# Altium schematic symbol library Sensor_Motion.SchLib: 26 symbols
Pins are listed as number, name and electrical type; pins without a type are passive.

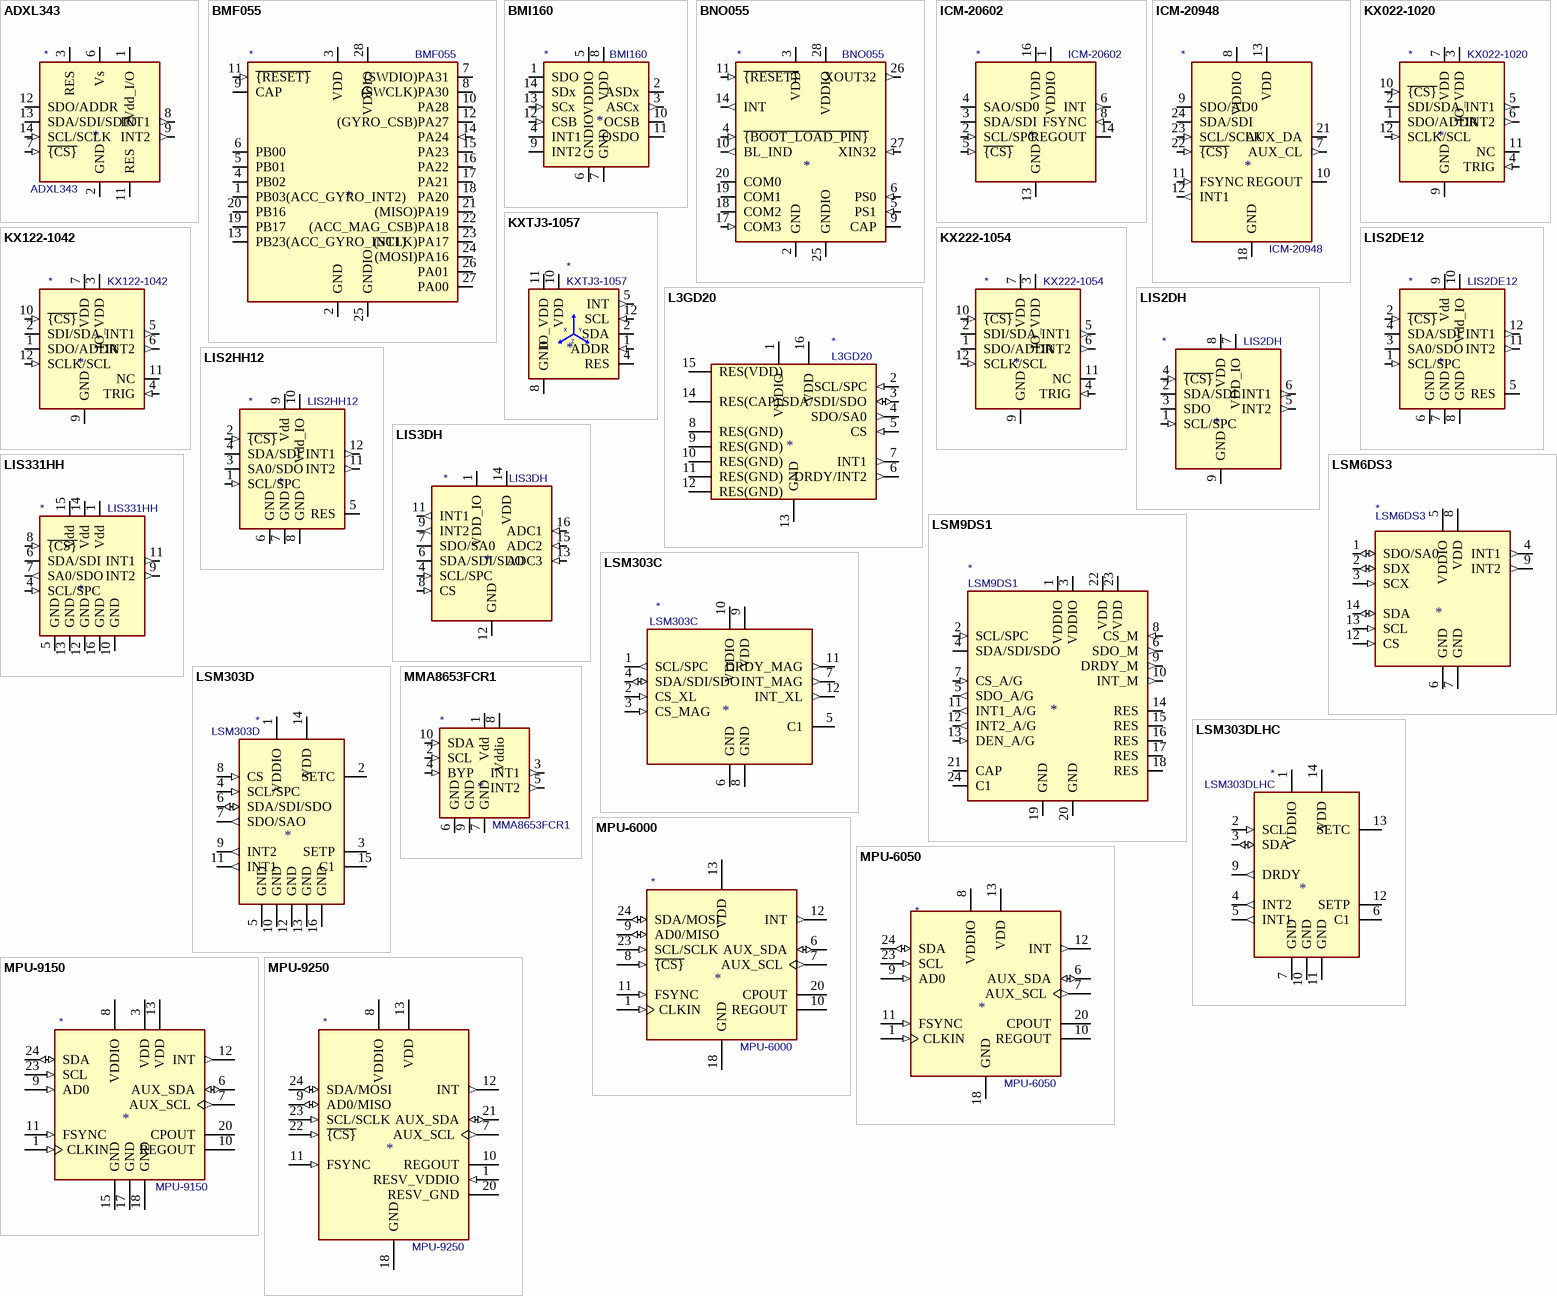
[diagram p0: symbols ADXL343 to MPU-9250]

## ADXL343
designator *  value ADXL343
ki_keywords: 3-axis accelerometer i2c spi mems; ki_description: 3-Axis MEMS Accelerometer, 2/4/8/16g range, I2C/SPI, LGA-14; ki_fp_filters: *LGA*3x5mm*P0.8mm*; Footprint: Package_LGA:LGA-14_3x5mm_P0.8mm_LayoutBorder1x6y; Supplier: https://www.analog.com/media/en/technical-documentation/data-sheets/ADXL343.pdf
footprint LGA-14_3x5mm_P0.8mm_LayoutBorder1x6y
pins: 1 Vdd_I/O (power), 2 GND (power), 3 RES, 4 GND hidden, 5 GND hidden, 6 Vs (power), 7 ~{{CS}} (in), 8 INT1 (out), 9 INT2 (out), 10 NC (in) hidden, 11 RES, 12 SDO/ADDR (io), 13 SDA/SDI/SDIO (io), 14 SCL/SCLK (in)

## BMF055
designator *  value BMF055
ki_keywords: 9-axis motion sensor IMU SAMD20 ARM Cortex-M0+; ki_description: Custom programmable 9-axis motion sensor; ki_fp_filters: LGA*5.2x3.8mm*P0.5mm*; Footprint: Package_LGA:LGA-28_5.2x3.8mm_P0.5mm; Supplier: https://ae-bst.resource.bosch.com/media/_tech/media/datasheets/BST-BMF055-DS000.pdf
footprint LGA-28_5.2x3.8mm_P0.5mm
pins: 1 PB03(ACC_GYRO_INT2) (io), 2 GND (power), 3 VDD (power), 4 PB02 (io), 5 PB01 (io), 6 PB00 (io), 7 (SWDIO)PA31 (io), 8 (SWCLK)PA30 (io), 9 CAP (io), 10 PA28 (io), 11 ~{{RESET}} (in), 12 (GYRO_CSB)PA27 (io), 13 PB23(ACC_GYRO_INT1) (io), 14 PA24 (in), 15 PA23 (io), 16 PA22 (io), 17 PA21 (io), 18 PA20 (io), 19 PB17 (io), 20 PB16 (io), 21 (MISO)PA19 (io), 22 (ACC_MAG_CSB)PA18 (io), 23 (SCLK)PA17 (io), 24 (MOSI)PA16 (io), 25 GNDIO (power), 26 PA01 (io), 27 PA00 (io), 28 VDDIO (power)

## BMI160
designator *  value BMI160
ki_keywords: Bosh IMU small low power inertial measurement unit; ki_description: Small, low power inertial measurement unit, LGA-14; ki_fp_filters: Bosch*LGA*3x2.5mm*P0.5mm*; Footprint: Package_LGA:Bosch_LGA-14_3x2.5mm_P0.5mm; Supplier: https://ae-bst.resource.bosch.com/media/_tech/media/datasheets/BST-BMI160-DS000.pdf
footprint Bosch_LGA-14_3x2.5mm_P0.5mm
pins: 1 SDO (io), 2 ASDx (io), 3 ASCx (out), 4 INT1 (io), 5 VDDIO (power), 6 GNDIO (power), 7 GND (power), 8 VDD (power), 9 INT2 (io), 10 OCSB (io), 11 OSDO (io), 12 CSB (in), 13 SCx (in), 14 SDx (io)

## BNO055
designator *  value BNO055
ki_keywords: IMU, Sensor Fusion, I2C, UART; ki_description: Intelligent 9-axis absolute orientation sensor, LGA-28; ki_fp_filters: LGA*5.2x3.8mm*P0.5mm*; Footprint: Package_LGA:LGA-28_5.2x3.8mm_P0.5mm; Supplier: https://ae-bst.resource.bosch.com/media/_tech/media/datasheets/BST_BNO055_DS000_14.pdf
footprint LGA-28_5.2x3.8mm_P0.5mm
pins: 1 PIN1 (in) hidden, 2 GND (power), 3 VDD (power), 4 ~{{BOOT_LOAD_PIN}} (in), 5 PS1 (in), 6 PS0 (in), 7 PIN7 (in) hidden, 8 PIN8 (in) hidden, 9 CAP, 10 BL_IND (out), 11 ~{{RESET}} (in), 12 PIN12 (in) hidden, 13 PIN13 (in) hidden, 14 INT (out), 15 GNDIO hidden, 16 GNDIO hidden, 17 COM3 (in), 18 COM2 (io), 19 COM1 (io), 20 COM0 (io), 21 PIN21 (in) hidden, 22 PIN22 (in) hidden, 23 PIN23 (in) hidden, 24 PIN24 (in) hidden, 25 GNDIO (power), 26 XOUT32 (out), 27 XIN32 (in), 28 VDDIO (power)

## ICM-20602
designator *  value ICM-20602
ki_keywords: accelerometer gyro mems motion; ki_description: High performance 6-Axis MEMS motion tracking, SPI/I2C interface, LGA-16; ki_fp_filters: LGA*3x3mm*P0.5mm*; Footprint: Package_LGA:LGA-16_3x3mm_P0.5mm_LayoutBorder3x5y; Supplier: http://www.invensense.com/wp-content/uploads/2016/10/DS-000176-ICM-20602-v1.0.pdf
footprint LGA-16_3x3mm_P0.5mm_LayoutBorder3x5y
pins: 1 VDDIO (power), 2 SCL/SPC (in), 3 SDA/SDI (io), 4 SAO/SD0 (io), 5 ~{{CS}} (in), 6 INT (out), 7 RESV (in) hidden, 8 FSYNC (in), 9 GND hidden, 10 GND hidden, 11 GND hidden, 12 GND hidden, 13 GND (power), 14 REGOUT, 15 GND hidden, 16 VDD (power)

## ICM-20948
designator *  value ICM-20948
ki_keywords: mems magnetometer; ki_description: InvenSense 9-Axis Motion Sensor, Accelerometer, Gyroscope, Compass, I2C/SPI, QFN-24; ki_fp_filters: InvenSense?QFN*3x3mm*P0.4mm*; Footprint: Sensor_Motion:InvenSense_QFN-24_3x3mm_P0.4mm; Supplier: http://www.invensense.com/wp-content/uploads/2016/06/DS-000189-ICM-20948-v1.3.pdf
footprint InvenSense_QFN-24_3x3mm_P0.4mm
pins: 1 NC (in) hidden, 2 NC (in) hidden, 3 NC (in) hidden, 4 NC (in) hidden, 5 NC (in) hidden, 6 NC (in) hidden, 7 AUX_CL (out), 8 VDDIO (power), 9 SDO/AD0 (io), 10 REGOUT, 11 FSYNC (in), 12 INT1 (out), 13 VDD (power), 14 NC (in) hidden, 15 NC (in) hidden, 16 NC (in) hidden, 17 NC (in) hidden, 18 GND (power), 19 RESV (in) hidden, 20 GND hidden, 21 AUX_DA (io), 22 ~{{CS}} (in), 23 SCL/SCLK (in), 24 SDA/SDI (io)

## KX022-1020
designator *  value KX022-1020
ki_keywords: 3-axis accelerometer spi i2c mems; ki_description: 3-Axis Accelerometer, 2/4/8g range, 256 byte buffer, I2C/SPI interface, LGA-12; ki_fp_filters: LGA*2x2mm*P0.5mm*; Footprint: Package_LGA:LGA-12_2x2mm_P0.5mm; Supplier: http://kionixfs.kionix.com/en/datasheet/KX022-1020%20Specifications%20Rev%2012.0.pdf
footprint LGA-12_2x2mm_P0.5mm
pins: 1 SDO/ADDR (io), 2 SDI/SDA (io), 3 IO_VDD (power), 4 TRIG (in), 5 INT1 (out), 6 INT2 (out), 7 VDD (power), 9 GND (power), 10 ~{{CS}} (in), 11 NC, 12 SCLK/SCL (in)

## KX122-1042
designator *  value KX122-1042
ki_keywords: 3-axis accelerometer spi i2c mems; ki_description: 3-Axis Accelerometer, 2/4/8g range, 2048 byte buffer, I2C/SPI interface, LGA-12; ki_fp_filters: LGA*2x2mm*P0.5mm*; Footprint: Package_LGA:LGA-12_2x2mm_P0.5mm; Supplier: http://kionixfs.kionix.com/en/datasheet/KX112-1042-Specifications-Rev-6.0.pdf
footprint LGA-12_2x2mm_P0.5mm
pins: 1 SDO/ADDR (io), 2 SDI/SDA (io), 3 IO_VDD (power), 4 TRIG (in), 5 INT1 (out), 6 INT2 (out), 7 VDD (power), 9 GND (power), 10 ~{{CS}} (in), 11 NC, 12 SCLK/SCL (in)

## KX222-1054
designator *  value KX222-1054
ki_keywords: 3-axis accelerometer spi i2c mems; ki_description: 3-Axis Accelerometer, 8/16/32g range, 2048 byte buffer, I2C/SPI interface, LGA-12; ki_fp_filters: LGA*2x2mm*P0.5mm*; Footprint: Package_LGA:LGA-12_2x2mm_P0.5mm; Supplier: http://kionixfs.kionix.com/en/datasheet/KX222-1054-Specifications-Rev-2.0.pdf
footprint LGA-12_2x2mm_P0.5mm
pins: 1 SDO/ADDR (io), 2 SDI/SDA (io), 3 IO_VDD (power), 4 TRIG (in), 5 INT1 (out), 6 INT2 (out), 7 VDD (power), 9 GND (power), 10 ~{{CS}} (in), 11 NC, 12 SCLK/SCL (in)

## KXTJ3-1057
designator *  value KXTJ3-1057
ki_keywords: accelerometer, tri-axis, i2c; ki_description: ±2g / 4g / 8g / 16g Tri-Axis Digital Accelerometer, I2C, 1.71-3.6V, LGA-12; ki_fp_filters: Kionix*LGA-12*2x2mm*P0.5mm*; Footprint: Package_LGA:Kionix_LGA-12_2x2mm_P0.5mm_LayoutBorder2x4y; Supplier: http://kionixfs.kionix.com/en/datasheet/KXTJ3-1057-Specifications-Rev-5.0.pdf
footprint Kionix_LGA-12_2x2mm_P0.5mm_LayoutBorder2x4y
pins: 1 ADDR (in), 2 SDA (io), 3 IO_VDD hidden, 4 RES, 5 INT (out), 6 GND hidden, 7 VDD hidden, 8 GND (power), 9 GND hidden, 10 VDD (power), 11 IO_VDD (power), 12 SCL (in)
text: X; Y; Z

## L3GD20
designator *  value L3GD20
ki_keywords: 3-Axis MEMS Gyroscope; ki_description: [Not recommended for new designs] 16-bit 3 Axis Digital MEMS Gyroscope, LGA-16; ki_fp_filters: LGA*4x4mm*P0.65mm*LayoutBorder4x4y*; Footprint: Package_LGA:LGA-16_4x4mm_P0.65mm_LayoutBorder4x4y; Supplier: http://www.st.com/st-web-ui/static/active/en/resource/technical/document/datasheet/DM00036465.pdf
footprint LGA-16_4x4mm_P0.65mm_LayoutBorder4x4y
pins: 1 VDDIO (power), 2 SCL/SPC (in), 3 SDA/SDI/SDO (io), 4 SDO/SA0 (out), 5 CS (in), 6 DRDY/INT2 (out), 7 INT1 (out), 8 RES(GND), 9 RES(GND), 10 RES(GND), 11 RES(GND), 12 RES(GND), 13 GND (power), 14 RES(CAP), 15 RES(VDD), 16 VDD (power)

## LIS2DE12
designator *  value LIS2DE12
ki_keywords: 3-axis accelerometer spi mems; ki_description: 3-Axis Accelerometer, 2/4/8/16g range, I2C/SPI interface; ki_fp_filters: LGA*2x2mm*P0.5mm*; Footprint: Package_LGA:LGA-12_2x2mm_P0.5mm; Supplier: https://www.st.com/resource/en/datasheet/lis2DE12.pdf
footprint LGA-12_2x2mm_P0.5mm
pins: 1 SCL/SPC (in), 2 ~{{CS}} (in), 3 SA0/SDO (io), 4 SDA/SDI (io), 5 RES, 6 GND (power), 7 GND (power), 8 GND (power), 9 Vdd (power), 10 Vdd_IO (power), 11 INT2 (out), 12 INT1 (out)

## LIS2DH
designator *  value LIS2DH
ki_keywords: 3-axis accelerometer spi mems LGA-14; ki_description: 3-Axis Accelerometer, 2/4/8/16g range, I2C/SPI interface, LGA-14; ki_fp_filters: LGA*2x2mm*P0.35mm*LayoutBorder3x4y*; Footprint: Package_LGA:LGA-14_2x2mm_P0.35mm_LayoutBorder3x4y; Supplier: http://www.st.com/web/en/resource/technical/document/datasheet/DM00042751.pdf
footprint LGA-14_2x2mm_P0.35mm_LayoutBorder3x4y
pins: 1 SCL/SPC (in), 2 SDA/SDI (io), 3 SDO (io), 4 ~{{CS}} (in), 5 INT2 (out), 6 INT1 (out), 7 VDD_IO (power), 8 VDD (power), 9 GND (power), 10 GND hidden, 11 GND hidden, 12 GND hidden, 13 GND hidden, 14 GND hidden

## LIS2HH12
designator *  value LIS2HH12
ki_keywords: 3-axis accelerometer spi mems; ki_description: 3-Axis Accelerometer, 2/4/8g range, I2C/SPI interface; ki_fp_filters: LGA*2x2mm*P0.5mm*; Footprint: Package_LGA:LGA-12_2x2mm_P0.5mm; Supplier: www.st.com/resource/en/datasheet/lis2hh12.pdf
footprint LGA-12_2x2mm_P0.5mm
pins: 1 SCL/SPC (in), 2 ~{{CS}} (in), 3 SA0/SDO (io), 4 SDA/SDI (io), 5 RES, 6 GND (power), 7 GND (power), 8 GND (power), 9 Vdd (power), 10 Vdd_IO (power), 11 INT2 (out), 12 INT1 (out)

## LIS3DH
designator *  value LIS3DH
ki_keywords: 3-axis accelerometer i2c spi mems; ki_description: 3-Axis Accelerometer, 2/4/8/16g range, I2C/SPI interface, LGA-16; ki_fp_filters: LGA*3x3mm*P0.5mm*LayoutBorder3x5y*; Footprint: Package_LGA:LGA-16_3x3mm_P0.5mm_LayoutBorder3x5y; Supplier: https://www.st.com/resource/en/datasheet/cd00274221.pdf
footprint LGA-16_3x3mm_P0.5mm_LayoutBorder3x5y
pins: 1 VDD_IO (power), 2 NC (in) hidden, 3 NC (in) hidden, 4 SCL/SPC (in), 5 GND hidden, 6 SDA/SDI/SDO (io), 7 SDO/SA0 (io), 8 CS (in), 9 INT2 (out), 10 GND hidden, 11 INT1 (out), 12 GND (power), 13 ADC3 (in), 14 VDD (power), 15 ADC2 (in), 16 ADC1 (in)

## LIS331HH
designator *  value LIS331HH
ki_keywords: 3-axis accelerometer spi i2c mems; ki_description: 3-Axis Accelerometer, 6/12/24g range, 1000Hz, I2C and SPI interface; ki_fp_filters: LGA-*3x3mm*P0.5mm*LayoutBorder3x5y*; Footprint: Package_LGA:LGA-16_3x3mm_P0.5mm_LayoutBorder3x5y; Supplier: http://www.st.com/st-web-ui/static/active/en/resource/technical/document/datasheet/CD00250937.pdf
footprint LGA-16_3x3mm_P0.5mm_LayoutBorder3x5y
pins: 1 Vdd (power), 2 NC (in) hidden, 3 NC (in) hidden, 4 SCL/SPC (in), 5 GND (power), 6 SDA/SDI (io), 7 SA0/SDO (out), 8 ~{{CS}} (in), 9 INT2 (out), 10 GND (power), 11 INT1 (out), 12 GND (power), 13 GND (power), 14 Vdd (power), 15 Vdd (power), 16 GND (power)

## LSM6DS3
designator *  value LSM6DS3
ki_keywords: Accelerometer Gyroscope MEMS; ki_description: I2C/SPI, iNEMO inertial module: always-on 3D accelerometer and 3D gyroscope; ki_fp_filters: LGA*3x2.5mm*P0.5mm*LayoutBorder3x4y*; Footprint: Package_LGA:LGA-14_3x2.5mm_P0.5mm_LayoutBorder3x4y; Supplier: www.st.com/resource/en/datasheet/lsm6ds3.pdf
footprint LGA-14_3x2.5mm_P0.5mm_LayoutBorder3x4y
pins: 1 SDO/SA0 (io), 2 SDX (io), 3 SCX (in), 4 INT1 (out), 5 VDDIO (power), 6 GND (power), 7 GND (power), 8 VDD (power), 9 INT2 (out), 10 NC (in) hidden, 11 NC (in) hidden, 12 CS (in), 13 SCL (in), 14 SDA (io)

## LSM9DS1
designator *  value LSM9DS1
ki_keywords: I2C SPI IMU accelerometer gyroscope magnetometer; ki_description: I2C SPI 9 axis IMU accelerometer gyroscope magnetometer; ki_fp_filters: LGA*3x3.5mm*P0.43mm*; Footprint: Package_LGA:LGA-24L_3x3.5mm_P0.43mm; Supplier: http://www.st.com/content/ccc/resource/technical/document/datasheet/1e/3f/2a/d6/25/eb/48/46/DM00103319.pdf/files/DM00103319.pdf/jcr:content/translations/en.DM00103319.pdf
footprint LGA-24L_3x3.5mm_P0.43mm
pins: 1 VDDIO (power), 2 SCL/SPC (in), 3 VDDIO (power), 4 SDA/SDI/SDO (io), 5 SDO_A/G (out), 6 SDO_M (out), 7 CS_A/G (in), 8 CS_M (in), 9 DRDY_M (out), 10 INT_M (out), 11 INT1_A/G (out), 12 INT2_A/G (out), 13 DEN_A/G (in), 14 RES (io), 15 RES (io), 16 RES (io), 17 RES (io), 18 RES (io), 19 GND (power), 20 GND (power), 21 CAP, 22 VDD (power), 23 VDD (power), 24 C1

## LSM303C
designator *  value LSM303C
ki_keywords: Accelerometer Magnetometer MEMS; ki_description: I2C/SPI, 3D Accelerometer and 3D Magnetometer; ki_fp_filters: LGA*2x2mm*P0.5mm*; Supplier: www.st.com/resource/en/datasheet/lsm303c.pdf
pins: 1 SCL/SPC (out), 2 CS_XL (in), 3 CS_MAG (in), 4 SDA/SDI/SDO (io), 5 C1, 6 GND (power), 7 INT_MAG (out), 8 GND (power), 9 VDD (power), 10 VDDIO (power), 11 DRDY_MAG (out), 12 INT_XL (out)

## LSM303D
designator *  value LSM303D
ki_keywords: Accelerometer Magnetometer MEMS; ki_description: [not recommended for new designs] I2C/SPI, 3D Accelerometer and 3D Magnetometer; ki_fp_filters: LGA*; Footprint: Package_LGA:LGA-16_3x3mm_P0.5mm; Supplier: http://www.st.com/web/en/resource/technical/document/datasheet/DM00057547.pdf
footprint LGA-16_3x3mm_P0.5mm
pins: 1 VDDIO (power), 2 SETC, 3 SETP, 4 SCL/SPC (in), 5 GND (power), 6 SDA/SDI/SDO (io), 7 SDO/SAO (out), 8 CS (in), 9 INT2 (out), 10 GND (power), 11 INT1 (out), 12 GND (power), 13 GND (power), 14 VDD (power), 15 C1, 16 GND (power)

## LSM303DLHC
designator *  value LSM303DLHC
ki_keywords: Accelerometer Magnetometer MEMS; ki_description: [not recommended for new designs] I2C, 3D Accelerometer and 3D Magnetometer; ki_fp_filters: LGA*3x5mm*P0.8mm*LayoutBorder1x6y*; Footprint: Package_LGA:LGA-14_3x5mm_P0.8mm_LayoutBorder1x6y; Supplier: http://www.st.com/web/en/resource/technical/document/datasheet/DM00027543.pdf
footprint LGA-14_3x5mm_P0.8mm_LayoutBorder1x6y
pins: 1 VDDIO (power), 2 SCL (in), 3 SDA (io), 4 INT2 (out), 5 INT1 (out), 6 C1, 7 GND (power), 8 NC (in) hidden, 9 DRDY (out), 10 GND (power), 11 GND (power), 12 SETP, 13 SETC, 14 VDD (power)

## MMA8653FCR1
designator *  value MMA8653FCR1
ki_keywords: Accelerometer I2C; ki_description: 3-Axis 10-bit Digital Accelerometer with I2C interface; ki_fp_filters: DFN*2x2mm*P0.4mm*; Footprint: Package_DFN_QFN:DFN-10_2x2mm_P0.4mm; Supplier: http://cache.freescale.com/files/sensors/doc/data_sheet/MMA8653FC.pdf
footprint DFN-10_2x2mm_P0.4mm
pins: 1 Vdd (power), 2 SCL (in), 3 INT1 (out), 4 BYP (in), 5 INT2 (out), 6 GND (power), 7 GND (power), 8 Vddio (power), 9 GND (power), 10 SDA (in)

## MPU-6000
designator *  value MPU-6000
ki_keywords: mems; ki_description: InvenSense 6-Axis Motion Sensor, Gyroscope, Accelerometer, I2C/SPI; ki_fp_filters: *QFN-24*4x4mm*P0.5mm*; Footprint: Sensor_Motion:InvenSense_QFN-24_4x4mm_P0.5mm; Supplier: https://store.invensense.com/datasheets/invensense/MPU-6050_DataSheet_V3%204.pdf
footprint InvenSense_QFN-24_4x4mm_P0.5mm
pins: 1 CLKIN (in), 6 AUX_SDA (io), 7 AUX_SCL (out), 8 ~{{CS}} (in), 9 AD0/MISO (io), 10 REGOUT, 11 FSYNC (in), 12 INT (out), 13 VDD (power), 18 GND (power), 20 CPOUT, 23 SCL/SCLK (in), 24 SDA/MOSI (io)

## MPU-6050
designator *  value MPU-6050
ki_keywords: mems; ki_description: InvenSense 6-Axis Motion Sensor, Gyroscope, Accelerometer, I2C; ki_fp_filters: *QFN*4x4mm*P0.5mm*; Footprint: Sensor_Motion:InvenSense_QFN-24_4x4mm_P0.5mm; Supplier: https://store.invensense.com/datasheets/invensense/MPU-6050_DataSheet_V3%204.pdf
footprint InvenSense_QFN-24_4x4mm_P0.5mm
pins: 1 CLKIN (in), 2 NC (in) hidden, 3 NC (in) hidden, 4 NC (in) hidden, 5 NC (in) hidden, 6 AUX_SDA (io), 7 AUX_SCL (out), 8 VDDIO (power), 9 AD0 (in), 10 REGOUT, 11 FSYNC (in), 12 INT (out), 13 VDD (power), 14 NC (in) hidden, 15 NC (in) hidden, 16 NC (in) hidden, 17 NC (in) hidden, 18 GND (power), 19 NC (in) hidden, 20 CPOUT, 21 NC (in) hidden, 22 NC (in) hidden, 23 SCL (in), 24 SDA (io)

## MPU-9150
designator *  value MPU-9150
ki_keywords: mems magnetometer; ki_description: InvenSense 9-Axis Motion Sensor, Accelerometer, Gyroscope, Compass, I2C; ki_fp_filters: *QFN-24*4x4mm*P0.5mm*; Footprint: Sensor_Motion:InvenSense_QFN-24_4x4mm_P0.5mm; Supplier: https://www.invensense.com/wp-content/uploads/2015/02/MPU-9150-Datasheet.pdf
footprint InvenSense_QFN-24_4x4mm_P0.5mm
pins: 1 CLKIN (in), 3 VDD (power), 6 AUX_SDA (io), 7 AUX_SCL (out), 8 VDDIO (power), 9 AD0 (in), 10 REGOUT, 11 FSYNC (in), 12 INT (out), 13 VDD (power), 15 GND (power), 17 GND (power), 18 GND (power), 20 CPOUT, 23 SCL (in), 24 SDA (io)

## MPU-9250
designator *  value MPU-9250
ki_keywords: mems magnetometer; ki_description: InvenSense 9-Axis Motion Sensor, Accelerometer, Gyroscope, Compass, I2C/SPI; ki_fp_filters: *QFN*3x3mm*P0.4mm*; Footprint: Sensor_Motion:InvenSense_QFN-24_3x3mm_P0.4mm; Supplier: https://store.invensense.com/datasheets/invensense/MPU9250REV1.0.pdf
footprint InvenSense_QFN-24_3x3mm_P0.4mm
pins: 1 RESV_VDDIO (in), 7 AUX_SCL (out), 8 VDDIO (power), 9 AD0/MISO (io), 10 REGOUT, 11 FSYNC (in), 12 INT (out), 13 VDD (power), 18 GND (power), 20 RESV_GND (power), 21 AUX_SDA (io), 22 ~{{CS}} (in), 23 SCL/SCLK (in), 24 SDA/MOSI (io)